# Altium schematic symbol library Passive.SchLib: 10 symbols
Pins are listed as number, name and electrical type; pins without a type are passive.

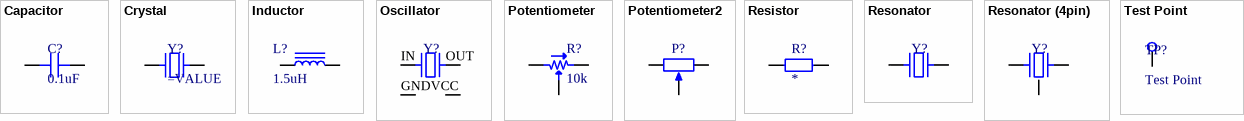
[diagram p0: symbols Capacitor to Test Point]

## Capacitor
designator C?, comment 0.1uF
SMT Capacitor; Value: 0.1uF
footprint CAP 0603 (Chip Capacitor, 2-Leads)
footprint CAP 1206 (Chip Capacitor, 2-Leads)
pins: 1, 2

## Crystal
designator Y?
SMT Crystal
pins: 1, 4

## Inductor
designator L?, comment 1.5uH
SMT Inductor; Value: 1.5uH
pins: 1, 2

## Oscillator
designator Y?
Oscillator
pins: 1, 2 VCC, 3, 4 GND
text: IN; OUT

## Potentiometer
designator R?, comment 10k
Potentiometer; Value: 10k
pins: 1, 2, 3

## Potentiometer2
designator P?
Potentiometer
pins: 1 TOP, 2 TAP, 3 BOT
1 alternate drawing of the same symbol

## Resistor
designator R?
SMDResistor; Value: *
footprint RES 0603 (Chip Resistor, 2-Leads)
footprint RES 1206 (Chip Resistor, 2-Leads)
pins: 1, 2

## Resonator
designator Y?
Resonator
footprint RESONATOR CFPX–217 (RESONATOR, CFPX–217, 32k)
pins: 1, 2

## Resonator (4pin)
designator Y?
Resonator
footprint RESONATOR ILCX13 (RESONATOR, ILCX13, 20MHz)
pins: 1, 2, 3, 4

## Test Point
designator TP?
footprint TP THT 70MILS
footprint TP THT 48MILS
footprint TP SMD 3x5 (mm)
pins: 1 TP